# Altium schematic symbol library MMBT2222ALT3G.SchLib: 1 symbol
Pins are listed as number, name and electrical type; pins without a type are passive.

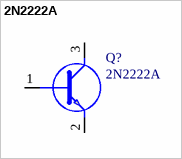
[diagram p0: symbol 2N2222A]

## 2N2222A
designator Q?
Boitier SOT23 -v MMBT2222ALT3G; Manufacturer_Name: onsemi; Geometry.Height: 1.11mm; Manufacturer_Part_Number: MMBT2222ALT3G; Mouser Part Number: 863-MMBT2222ALT3G; Mouser Price/Stock: https://www.mouser.co.uk/ProductDetail/onsemi/MMBT2222ALT3G?qs=R2UZ7gjkEjJUeR4kVVA5Qw%3D%3D; Arrow Part Number: MMBT2222ALT3G; Arrow Price/Stock: https://www.arrow.com/en/products/mmbt2222alt3g/on-semiconductor?utm_currency=USD&region=nac; Datasheet Link: http://www.onsemi.com/pub/Collateral/MMBT2222LT1-D.PDF
footprint SOT96P237X111-3N
pins: 1 B, 2 E, 3 C